# EAGLE library part ADP3301 (library keves)
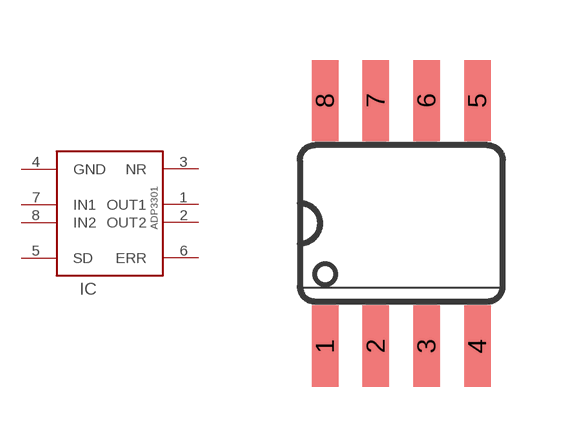
[diagram p33: symbol with the pads of SO08; footprint SO08]

Designator prefix IC

## ADP3301  [SO08]
1  OUT1
2  OUT2
3  NR
4  GND
5  SD
6  ERR
7  IN1
8  IN2

## Footprint SO08 (pad centres in mm)
Small Outline Package SOIC 150 mil
smd 0.66 x 2.032: 1 -1.905,-3.073; 2 -0.635,-3.073; 3 0.635,-3.073; 4 1.905,-3.073; 5 1.905,3.073; 6 0.635,3.073; 7 -0.635,3.073; 8 -1.905,3.073